# EAGLE library part ZXGD3009DY (library Roboracing)
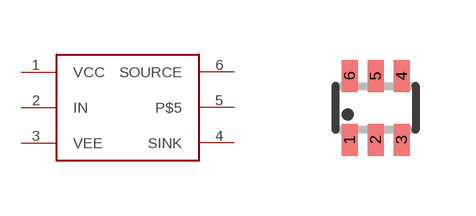
[diagram p11: symbol with the pads of SOT363; footprint SOT363]

Designator prefix -

## ZXGD3009DY  [SOT363]
1  VCC
2  IN
3  VEE
4  SINK
5  P$5
6  SOURCE

## Footprint SOT363 (pad centres in mm)
SOT-363 (SC-706 Lead) Source: Data sheet <http://www.farnell.com/datasheets/461166.pdf>
smd 0.4 x 0.8: 1 -0.65,-0.8; 2 0,-0.8; 3 0.65,-0.8; 4 0.65,0.8; 5 0,0.8; 6 -0.65,0.8